# Altium integrated library FS48-125.IntLib: 1 symbol
Pins are listed as number, name and electrical type; pins without a type are passive.

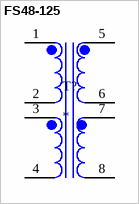
[diagram p0: symbol FS48-125]

## FS48-125
designator T?
PC MOUNT POWER TRANSFORMER; MF: Triad Magnetics; MP: FS48-125; SnapEDA_Link: https://www.snapeda.com/parts/FS48-125/Triad+Magnetics/view-part/?ref=snap; Package: None; Value: *; Check_prices: https://www.snapeda.com/parts/FS48-125/Triad+Magnetics/view-part/?ref=eda
footprint XFRMR_FS48-125
pins: 1, 2, 3, 4, 5, 6, 7, 8